# Altium footprint library Connectors-WR-PHD_Pin Header.PcbLib: 232 footprints (part 6 of 15)
Each footprint in its own frame and in the unit in brackets; x right, y up, seen from the top. Pads: shape width x height; smd on the part's side, far side on the other; paste and mask are expansions set on the pad; w line width, h text height; cw(c..) or ccw(c..) is an arc to the next point about the centre after c.
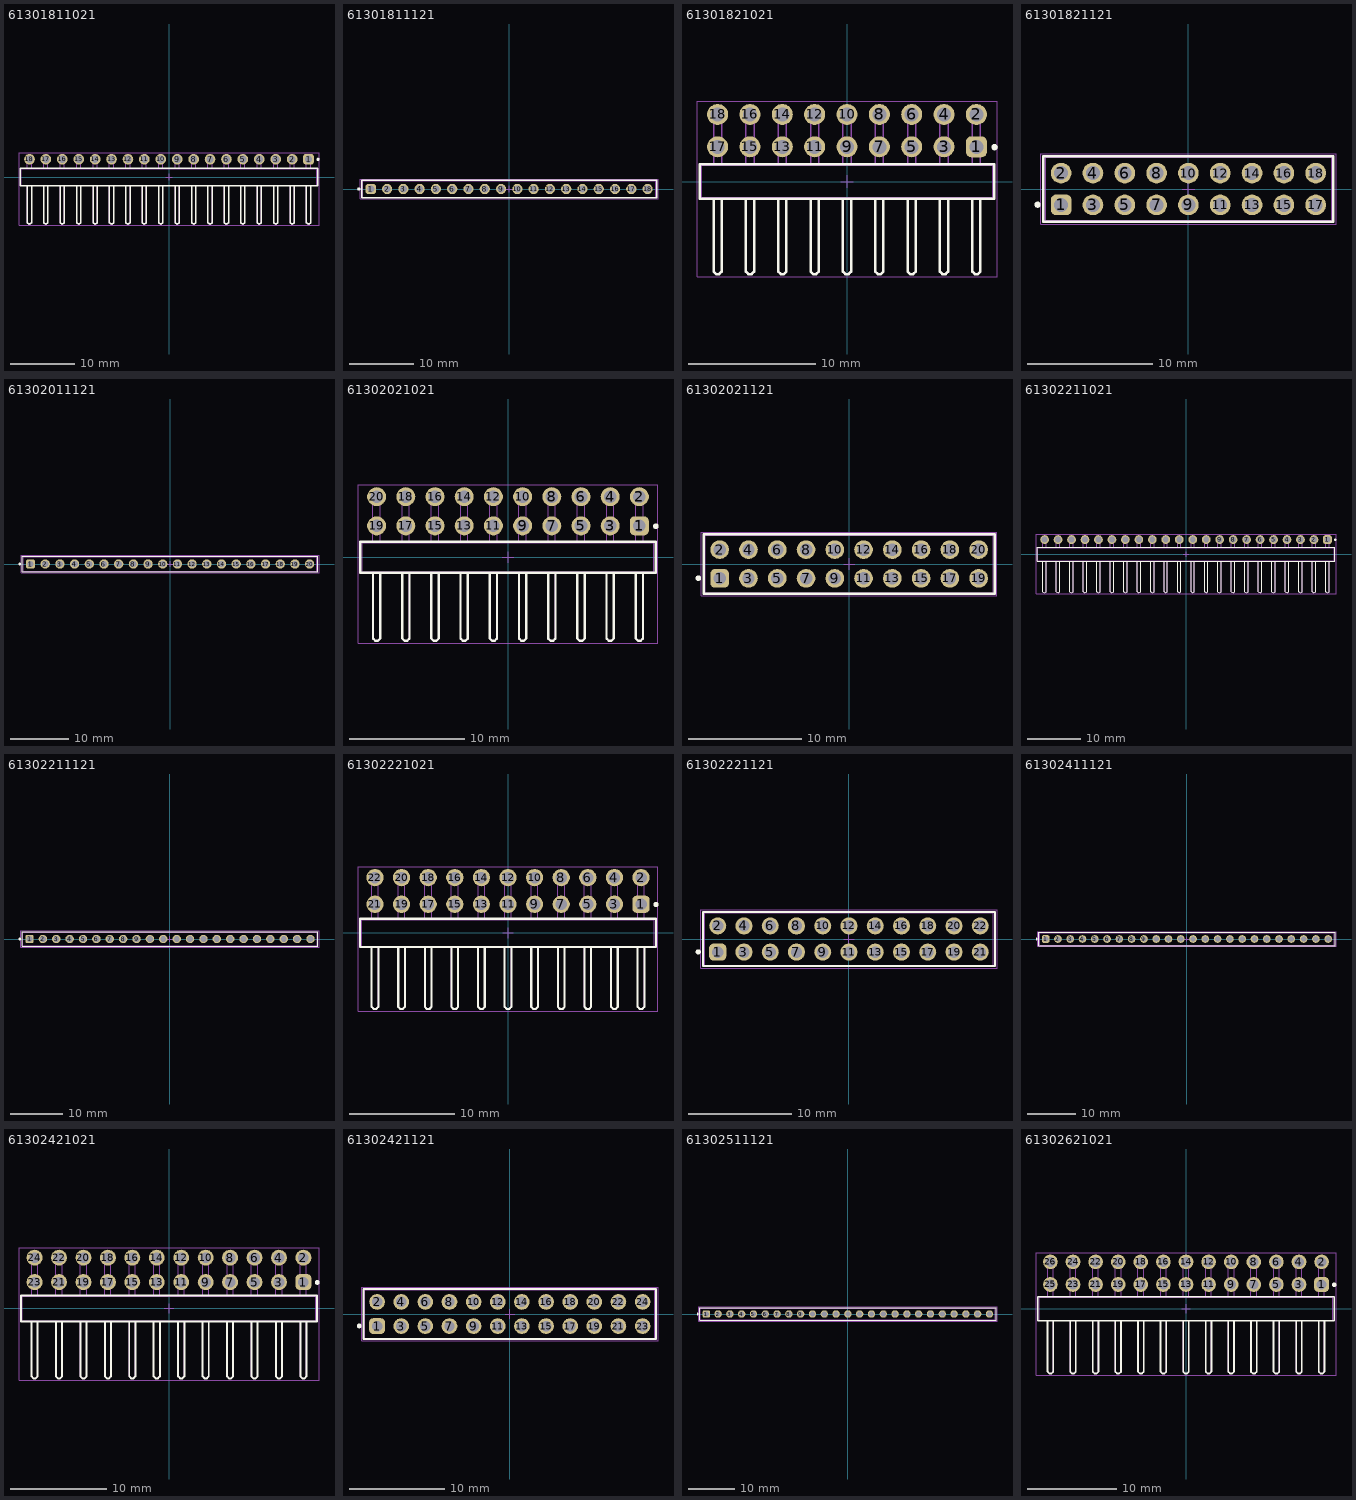
[diagram p5: the footprints below, top view; thin cyan lines are the x and y axes]

## 61301811021 [mm] "Pin Header, pitch 2.54 mm, THT, Angled, single row, 18p"
height 2.54
pads (18):
  rrect50% 1.65x1.65 hole 1.1: 1(21.59,2.77)
  round 1.65 hole 1.1: 2(19.05,2.77) 3(16.51,2.77) 4(13.97,2.77) 5(11.43,2.77) 6(8.89,2.77) 7(6.35,2.77) 8(3.81,2.77) 9(1.27,2.77) 10(-1.27,2.77) 11(-3.81,2.77) 12(-6.35,2.77) 13(-8.89,2.77) 14(-11.43,2.77) 15(-13.97,2.77) 16(-16.51,2.77) 17(-19.05,2.77) 18(-21.59,2.77)
Top Overlay:
  circle w0.25: c23.07,2.75 r0.125
  lines w0.2: -21.91,-1.345 -21.91,-7.07 -21.59,-7.27 -21.27,-7.07 -21.27,-1.345 ; -19.37,-1.345 -19.37,-7.07 -19.05,-7.27 -18.73,-7.07 -18.73,-1.345 ; -16.83,-1.345 -16.83,-7.07 -16.51,-7.27 -16.19,-7.07 -16.19,-1.345 ; -14.29,-1.345 -14.29,-7.07 -13.97,-7.27 -13.65,-7.07 -13.65,-1.345 ; -11.75,-1.345 -11.75,-7.07 -11.43,-7.27 -11.11,-7.07 -11.11,-1.345 ; -9.21,-1.345 -9.21,-7.07 -8.89,-7.27 -8.57,-7.07 -8.57,-1.345 ; -6.67,-1.345 -6.67,-7.07 -6.35,-7.27 -6.03,-7.07 -6.03,-1.345 ; -4.13,-1.345 -4.13,-7.07 -3.81,-7.27 -3.49,-7.07 -3.49,-1.345 ; -1.59,-1.345 -1.59,-7.07 -1.27,-7.27 -0.95,-7.07 -0.95,-1.345 ; 0.95,-1.345 0.95,-7.07 1.27,-7.27 1.59,-7.07 1.59,-1.345 ; 3.49,-1.345 3.49,-7.07 3.81,-7.27 4.13,-7.07 4.13,-1.345 ; 6.03,-1.345 6.03,-7.07 6.35,-7.27 6.67,-7.07 6.67,-1.345 ; 8.57,-1.345 8.57,-7.07 8.89,-7.27 9.21,-7.07 9.21,-1.345 ; 11.11,-1.345 11.11,-7.07 11.43,-7.27 11.75,-7.07 11.75,-1.345 ; 13.65,-1.345 13.65,-7.07 13.97,-7.27 14.29,-7.07 14.29,-1.345 ; 16.19,-1.345 16.19,-7.07 16.51,-7.27 16.83,-7.07 16.83,-1.345 ; 18.73,-1.345 18.73,-7.07 19.05,-7.27 19.37,-7.07 19.37,-1.345 ; 21.27,-1.345 21.27,-7.07 21.59,-7.27 21.91,-7.07 21.91,-1.345 ; -23.01,-1.345 -23.01,1.345 23.01,1.345 23.01,-1.345 -23.01,-1.345
Top Designator:
  text ".Designator" at -7.498,-0.5 h1.5
Top Component Outline:
  lines w0.1: -21.91,-1.27 -21.91,-7.07 -21.59,-7.27 -21.27,-7.07 -21.27,-1.27 ; -21.91,1.27 -21.91,3.09 -21.27,3.09 -21.27,1.27 ; -19.37,-1.27 -19.37,-7.07 -19.05,-7.27 -18.73,-7.07 -18.73,-1.27 ; -19.37,1.27 -19.37,3.09 -18.73,3.09 -18.73,1.27 ; -16.83,-1.27 -16.83,-7.07 -16.51,-7.27 -16.19,-7.07 -16.19,-1.27 ; -16.83,1.27 -16.83,3.09 -16.19,3.09 -16.19,1.27 ; -14.29,-1.27 -14.29,-7.07 -13.97,-7.27 -13.65,-7.07 -13.65,-1.27 ; -14.29,1.27 -14.29,3.09 -13.65,3.09 -13.65,1.27 ; -11.75,-1.27 -11.75,-7.07 -11.43,-7.27 -11.11,-7.07 -11.11,-1.27 ; -11.75,1.27 -11.75,3.09 -11.11,3.09 -11.11,1.27 ; -9.21,-1.27 -9.21,-7.07 -8.89,-7.27 -8.57,-7.07 -8.57,-1.27 ; -9.21,1.27 -9.21,3.09 -8.57,3.09 -8.57,1.27 ; -6.67,-1.27 -6.67,-7.07 -6.35,-7.27 -6.03,-7.07 -6.03,-1.27 ; -6.67,1.27 -6.67,3.09 -6.03,3.09 -6.03,1.27 ; -4.13,-1.27 -4.13,-7.07 -3.81,-7.27 -3.49,-7.07 -3.49,-1.27 ; -4.13,1.27 -4.13,3.09 -3.49,3.09 -3.49,1.27 ; -1.59,-1.27 -1.59,-7.07 -1.27,-7.27 -0.95,-7.07 -0.95,-1.27 ; -1.59,1.27 -1.59,3.09 -0.95,3.09 -0.95,1.27 ; 0.95,-1.27 0.95,-7.07 1.27,-7.27 1.59,-7.07 1.59,-1.27 ; 0.95,1.27 0.95,3.09 1.59,3.09 1.59,1.27 ; 3.49,-1.27 3.49,-7.07 3.81,-7.27 4.13,-7.07 4.13,-1.27 ; 3.49,1.27 3.49,3.09 4.13,3.09 4.13,1.27 ; 6.03,-1.27 6.03,-7.07 6.35,-7.27 6.67,-7.07 6.67,-1.27 ; 6.03,1.27 6.03,3.09 6.67,3.09 6.67,1.27 ; 8.57,-1.27 8.57,-7.07 8.89,-7.27 9.21,-7.07 9.21,-1.27 ; 8.57,1.27 8.57,3.09 9.21,3.09 9.21,1.27 ; 11.11,-1.27 11.11,-7.07 11.43,-7.27 11.75,-7.07 11.75,-1.27 ; 11.11,1.27 11.11,3.09 11.75,3.09 11.75,1.27 ; 13.65,-1.27 13.65,-7.07 13.97,-7.27 14.29,-7.07 14.29,-1.27 ; 13.65,1.27 13.65,3.09 14.29,3.09 14.29,1.27 ; 16.19,-1.27 16.19,-7.07 16.51,-7.27 16.83,-7.07 16.83,-1.27 ; 16.19,1.27 16.19,3.09 16.83,3.09 16.83,1.27 ; 18.73,-1.27 18.73,-7.07 19.05,-7.27 19.37,-7.07 19.37,-1.27 ; 18.73,1.27 18.73,3.09 19.37,3.09 19.37,1.27 ; 21.27,-1.27 21.27,-7.07 21.59,-7.27 21.91,-7.07 21.91,-1.27 ; 21.27,1.27 21.27,3.09 21.91,3.09 21.91,1.27 ; -22.86,-1.27 -22.86,1.27 22.86,1.27 22.86,-1.27 -22.86,-1.27
Top Courtyard:
  lines w0.05: -23.21,-7.47 -23.21,3.795 23.21,3.795 23.21,-7.47 -23.21,-7.47
Top Component Center:
  lines w0.05: -0.5,0 0.5,0 ; 0,-0.5 0,0.5
3D body "61301811021.stp": height 2.58, standoff -2.96, extent -22.86,-7.27 22.86,3.09

## 61301811121 [mm] "Pin Header, pitch 2.54 mm, THT, Vertical, single row, 18p"
height 8.54
pads (18):
  rrect50% 1.6x1.6 hole 1.1: 1(-21.59,0)
  round 1.6 hole 1.1: 2(-19.05,0) 3(-16.51,0) 4(-13.97,0) 5(-11.43,0) 6(-8.89,0) 7(-6.35,0) 8(-3.81,0) 9(-1.27,0) 10(1.27,0) 11(3.81,0) 12(6.35,0) 13(8.89,0) 14(11.43,0) 15(13.97,0) 16(16.51,0) 17(19.05,0) 18(21.59,0)
Top Overlay:
  circle w0.25: c-23.46,0 r0.125
  lines w0.2: -23.01,-1.345 -23.01,1.345 23.01,1.345 23.01,-1.345 -23.01,-1.345
Top Designator:
  text ".Designator" at -7.498,-0.5 h1.5
Top Component Outline:
  lines w0.1: -22.86,-1.27 22.86,-1.27 22.86,1.27 -22.86,1.27 -22.86,-1.27
Top Courtyard:
  lines w0.05: -23.21,-1.545 23.21,-1.545 23.21,1.545 -23.21,1.545 -23.21,-1.545
Top Component Center:
  lines w0.05: -0.5,0 0.5,0 ; 0,-0.5 0,0.5
3D body "61301811121.stp": height 8.57, standoff -2.97, extent -22.86,-1.27 22.86,1.27

## 61301821021 [mm] "Pin Header, pitch 2.54 mm, THT, Angled, dual row, 18p"
height 5.08
pads (18):
  rrect50% 1.65x1.65 hole 1.1: 1(10.16,2.73)
  round 1.65 hole 1.1: 2(10.16,5.27) 3(7.62,2.73) 4(7.62,5.27) 5(5.08,2.73) 6(5.08,5.27) 7(2.54,2.73) 8(2.54,5.27) 9(0,2.73) 10(0,5.27) 11(-2.54,2.73) 12(-2.54,5.27) 13(-5.08,2.73) 14(-5.08,5.27) 15(-7.62,2.73) 16(-7.62,5.27) 17(-10.16,2.73) 18(-10.16,5.27)
Top Overlay:
  circle w0.25: c11.59,2.7 r0.125
  lines w0.2: -10.48,-1.345 -10.48,-7.07 -10.28,-7.27 -10.04,-7.27 -9.84,-7.07 -9.84,-1.345 ; -7.94,-1.345 -7.94,-7.07 -7.74,-7.27 -7.5,-7.27 -7.3,-7.07 -7.3,-1.345 ; -5.4,-1.345 -5.4,-7.07 -5.2,-7.27 -4.96,-7.27 -4.76,-7.07 -4.76,-1.345 ; -2.86,-1.345 -2.86,-7.07 -2.66,-7.27 -2.42,-7.27 -2.22,-7.07 -2.22,-1.345 ; -0.32,-1.345 -0.32,-7.07 -0.12,-7.27 0.12,-7.27 0.32,-7.07 0.32,-1.345 ; 2.22,-1.345 2.22,-7.07 2.42,-7.27 2.66,-7.27 2.86,-7.07 2.86,-1.345 ; 4.76,-1.345 4.76,-7.07 4.96,-7.27 5.2,-7.27 5.4,-7.07 5.4,-1.345 ; 7.3,-1.345 7.3,-7.07 7.5,-7.27 7.74,-7.27 7.94,-7.07 7.94,-1.345 ; 9.84,-1.345 9.84,-7.07 10.04,-7.27 10.28,-7.27 10.48,-7.07 10.48,-1.345 ; -11.58,-1.345 -11.58,1.345 11.58,1.345 11.58,-1.345 -11.58,-1.345
Top Designator:
  text ".Designator" at -7.498,-0.5 h1.5
Top Component Outline:
  lines w0.1: -10.48,-1.27 -10.48,-7.07 -10.28,-7.27 -10.04,-7.27 -9.84,-7.07 -9.84,-1.27 ; -10.48,1.27 -10.48,5.63 -9.84,5.63 -9.84,1.27 ; -10.48,3.09 -9.84,3.09 ; -7.94,-1.27 -7.94,-7.07 -7.74,-7.27 -7.5,-7.27 -7.3,-7.07 -7.3,-1.27 ; -7.94,1.27 -7.94,5.63 -7.3,5.63 -7.3,1.27 ; -7.94,3.09 -7.3,3.09 ; -5.4,-1.27 -5.4,-7.07 -5.2,-7.27 -4.96,-7.27 -4.76,-7.07 -4.76,-1.27 ; -5.4,1.27 -5.4,5.63 -4.76,5.63 -4.76,1.27 ; -5.4,3.09 -4.76,3.09 ; -2.86,-1.27 -2.86,-7.07 -2.66,-7.27 -2.42,-7.27 -2.22,-7.07 -2.22,-1.27 ; -2.86,1.27 -2.86,5.63 -2.22,5.63 -2.22,1.27 ; -2.86,3.09 -2.22,3.09 ; -0.32,-1.27 -0.32,-7.07 -0.12,-7.27 0.12,-7.27 0.32,-7.07 0.32,-1.27 ; -0.32,1.27 -0.32,5.63 0.32,5.63 0.32,1.27 ; -0.32,3.09 0.32,3.09 ; 2.22,-1.27 2.22,-7.07 2.42,-7.27 2.66,-7.27 2.86,-7.07 2.86,-1.27 ; 2.22,1.27 2.22,5.63 2.86,5.63 2.86,1.27 ; 2.22,3.09 2.86,3.09 ; 4.76,-1.27 4.76,-7.07 4.96,-7.27 5.2,-7.27 5.4,-7.07 5.4,-1.27 ; 4.76,1.27 4.76,5.63 5.4,5.63 5.4,1.27 ; 7.3,-1.27 7.3,-7.07 7.5,-7.27 7.74,-7.27 7.94,-7.07 7.94,-1.27 ; 7.3,1.27 7.3,5.63 7.94,5.63 7.94,1.27 ; 7.3,3.09 7.94,3.09 ; 9.84,-1.27 9.84,-7.07 10.04,-7.27 10.28,-7.27 10.48,-7.07 10.48,-1.27 ; 9.84,1.27 9.84,5.63 10.48,5.63 10.48,1.27 ; 9.84,3.09 10.48,3.09 ; -11.43,-1.27 -11.43,1.27 11.43,1.27 11.43,-1.27 -11.43,-1.27 ; 4.76,3.09 5.4,3.09 4.76,3.09
Top Courtyard:
  lines w0.05: -11.78,-7.47 -11.78,6.295 11.78,6.295 11.78,-7.47 -11.78,-7.47
Top Component Center:
  lines w0.05: -0.5,0 0.5,0 ; 0,-0.5 0,0.5
3D body "61301821021.stp": height 5.12, standoff -2.96, extent -11.43,-7.27 11.43,5.63

## 61301821121 [mm] "Pin Header, pitch 2.54 mm, THT, Vertical, dual row, 18p"
height 8.54
pads (18):
  rrect50% 1.65x1.65 hole 1.1: 1(-10.16,-1.27)
  round 1.65 hole 1.1: 2(-10.16,1.27) 3(-7.62,-1.27) 4(-7.62,1.27) 5(-5.08,-1.27) 6(-5.08,1.27) 7(-2.54,-1.27) 8(-2.54,1.27) 9(0,-1.27) 10(0,1.27) 11(2.54,-1.27) 12(2.54,1.27) 13(5.08,-1.27) 14(5.08,1.27) 15(7.62,-1.27) 16(7.62,1.27) 17(10.16,-1.27) 18(10.16,1.27)
Top Overlay:
  circle w0.25: c-12.04,-1.25 r0.125
  lines w0.2: -11.58,-2.615 -11.58,2.615 11.58,2.615 11.58,-2.615 -11.58,-2.615
Top Designator:
  text ".Designator" at -7.498,-0.5 h1.5
Top Component Outline:
  lines w0.1: -11.43,-2.54 -11.43,2.54 11.43,2.54 11.43,-2.54 -11.43,-2.54
Top Courtyard:
  lines w0.05: -11.78,-2.815 11.78,-2.815 11.78,2.815 -11.78,2.815 -11.78,-2.815
Top Component Center:
  lines w0.05: -0.5,0 0.5,0 ; 0,-0.5 0,0.5
3D body "61301821121.stp": height 8.59, standoff -2.95, extent -11.43,-2.54 11.43,2.54

## 61302011121 [mm] "Pin Header, pitch 2.54 mm, THT, Vertical, single row, 20p"
height 8.54
pads (20):
  rrect50% 1.6x1.6 hole 1.1: 1(-24.13,0)
  round 1.6 hole 1.1: 2(-21.59,0) 3(-19.05,0) 4(-16.51,0) 5(-13.97,0) 6(-11.43,0) 7(-8.89,0) 8(-6.35,0) 9(-3.81,0) 10(-1.27,0) 11(1.27,0) 12(3.81,0) 13(6.35,0) 14(8.89,0) 15(11.43,0) 16(13.97,0) 17(16.51,0) 18(19.05,0) 19(21.59,0) 20(24.13,0)
Top Overlay:
  circle w0.25: c-26,0 r0.125
  lines w0.2: -25.55,-1.345 25.55,-1.345 25.55,1.345 -25.55,1.345 -25.55,-1.345
Top Designator:
  text ".Designator" at -7.498,-0.5 h1.5
Top Component Outline:
  lines w0.1: -25.4,-1.27 25.4,-1.27 25.4,1.27 -25.4,1.27 -25.4,-1.27
Top Courtyard:
  lines w0.05: -25.75,-1.545 -25.75,1.545 25.75,1.545 25.75,-1.545 -25.75,-1.545
Top Component Center:
  lines w0.05: -0.5,0 0.5,0 ; 0,-0.5 0,0.5
3D body "61302011121.stp": height 8.57, standoff -2.97, extent -25.4,-1.27 25.4,1.27

## 61302021021 [mm] "Pin Header, pitch 2.54 mm, THT, Angled, dual row, 20p"
height 5.08
pads (20):
  rrect50% 1.65x1.65 hole 1.1: 1(11.43,2.73)
  round 1.65 hole 1.1: 2(11.43,5.27) 3(8.89,2.73) 4(8.89,5.27) 5(6.35,2.73) 6(6.35,5.27) 7(3.81,2.73) 8(3.81,5.27) 9(1.27,2.73) 10(1.27,5.27) 11(-1.27,2.73) 12(-1.27,5.27) 13(-3.81,2.73) 14(-3.81,5.27) 15(-6.35,2.73) 16(-6.35,5.27) 17(-8.89,2.73) 18(-8.89,5.27) 19(-11.43,2.73) 20(-11.43,5.27)
Top Overlay:
  circle w0.25: c12.86,2.7 r0.125
  lines w0.2: -11.75,-1.345 -11.75,-7.07 -11.55,-7.27 -11.31,-7.27 -11.11,-7.07 -11.11,-1.345 ; -9.21,-1.345 -9.21,-7.07 -9.01,-7.27 -8.77,-7.27 -8.57,-7.07 -8.57,-1.345 ; -6.67,-1.345 -6.67,-7.07 -6.47,-7.27 -6.23,-7.27 -6.03,-7.07 -6.03,-1.345 ; -4.13,-1.345 -4.13,-7.07 -3.93,-7.27 -3.69,-7.27 -3.49,-7.07 -3.49,-1.345 ; -1.59,-1.345 -1.59,-7.07 -1.39,-7.27 -1.15,-7.27 -0.95,-7.07 -0.95,-1.345 ; 0.95,-1.345 0.95,-7.07 1.15,-7.27 1.39,-7.27 1.59,-7.07 1.59,-1.345 ; 3.49,-1.345 3.49,-7.07 3.69,-7.27 3.93,-7.27 4.13,-7.07 4.13,-1.345 ; 6.03,-1.345 6.03,-7.07 6.23,-7.27 6.47,-7.27 6.67,-7.07 6.67,-1.345 ; 8.57,-1.345 8.57,-7.07 8.77,-7.27 9.01,-7.27 9.21,-7.07 9.21,-1.345 ; 11.11,-1.345 11.11,-7.07 11.31,-7.27 11.55,-7.27 11.75,-7.07 11.75,-1.345 ; -12.85,-1.345 -12.85,1.345 12.85,1.345 12.85,-1.345 -12.85,-1.345
Top Designator:
  text ".Designator" at -7.498,-0.5 h1.5
Top Component Outline:
  lines w0.1: -11.75,-1.27 -11.75,-7.07 -11.55,-7.27 -11.31,-7.27 -11.11,-7.07 -11.11,-1.27 ; -11.75,1.27 -11.75,5.63 -11.11,5.63 -11.11,1.27 ; -11.75,3.09 -11.11,3.09 ; -9.21,-1.27 -9.21,-7.07 -9.01,-7.27 -8.77,-7.27 -8.57,-7.07 -8.57,-1.27 ; -9.21,1.27 -9.21,5.63 -8.57,5.63 -8.57,1.27 ; -9.21,3.09 -8.57,3.09 ; -6.67,-1.27 -6.67,-7.07 -6.47,-7.27 -6.23,-7.27 -6.03,-7.07 -6.03,-1.27 ; -6.67,1.27 -6.67,5.63 -6.03,5.63 -6.03,1.27 ; -6.67,3.09 -6.03,3.09 ; -4.13,-1.27 -4.13,-7.07 -3.93,-7.27 -3.69,-7.27 -3.49,-7.07 -3.49,-1.27 ; -4.13,1.27 -4.13,5.63 -3.49,5.63 -3.49,1.27 ; -4.13,3.09 -3.49,3.09 ; -1.59,-1.27 -1.59,-7.07 -1.39,-7.27 -1.15,-7.27 -0.95,-7.07 -0.95,-1.27 ; -1.59,1.27 -1.59,5.63 -0.95,5.63 -0.95,1.27 ; -1.59,3.09 -0.95,3.09 ; 0.95,-1.27 0.95,-7.07 1.15,-7.27 1.39,-7.27 1.59,-7.07 1.59,-1.27 ; 0.95,1.27 0.95,5.63 1.59,5.63 1.59,1.27 ; 0.95,3.09 1.59,3.09 ; 3.49,-1.27 3.49,-7.07 3.69,-7.27 3.93,-7.27 4.13,-7.07 4.13,-1.27 ; 3.49,1.27 3.49,5.63 4.13,5.63 4.13,1.27 ; 6.03,-1.27 6.03,-7.07 6.23,-7.27 6.47,-7.27 6.67,-7.07 6.67,-1.27 ; 6.03,1.27 6.03,5.63 6.67,5.63 6.67,1.27 ; 6.03,3.09 6.67,3.09 ; 8.57,-1.27 8.57,-7.07 8.77,-7.27 9.01,-7.27 9.21,-7.07 9.21,-1.27 ; 8.57,1.27 8.57,5.63 9.21,5.63 9.21,1.27 ; 8.57,3.09 9.21,3.09 ; 11.11,-1.27 11.11,-7.07 11.31,-7.27 11.55,-7.27 11.75,-7.07 11.75,-1.27 ; 11.11,1.27 11.11,5.63 11.75,5.63 11.75,1.27 ; 11.11,3.09 11.75,3.09 ; -12.7,-1.27 12.7,-1.27 12.7,1.27 -12.7,1.27 -12.7,-1.27 ; 3.49,3.09 4.13,3.09 3.49,3.09
Top Courtyard:
  lines w0.05: -13.05,-7.47 -13.05,6.295 13.05,6.295 13.05,-7.47 -13.05,-7.47
Top Component Center:
  lines w0.05: -0.5,0 0.5,0 ; 0,-0.5 0,0.5
3D body "61302021021.stp": height 5.12, standoff -2.96, extent -12.7,-7.27 12.7,5.63

## 61302021121 [mm] "Pin Header, pitch 2.54 mm, THT, Vertical, dual row, 20p"
height 8.54
pads (20):
  rrect50% 1.65x1.65 hole 1.1: 1(-11.43,-1.27)
  round 1.65 hole 1.1: 2(-11.43,1.27) 3(-8.89,-1.27) 4(-8.89,1.27) 5(-6.35,-1.27) 6(-6.35,1.27) 7(-3.81,-1.27) 8(-3.81,1.27) 9(-1.27,-1.27) 10(-1.27,1.27) 11(1.27,-1.27) 12(1.27,1.27) 13(3.81,-1.27) 14(3.81,1.27) 15(6.35,-1.27) 16(6.35,1.27) 17(8.89,-1.27) 18(8.89,1.27) 19(11.43,-1.27) 20(11.43,1.27)
Top Overlay:
  circle w0.25: c-13.31,-1.25 r0.125
  lines w0.2: -12.85,-2.615 12.85,-2.615 12.85,2.615 -12.85,2.615 -12.85,-2.615
Top Designator:
  text ".Designator" at -7.498,-0.5 h1.5
Top Component Outline:
  lines w0.1: -12.7,-2.54 12.7,-2.54 12.7,2.54 -12.7,2.54 -12.7,-2.54
Top Courtyard:
  lines w0.05: -13.05,-2.815 -13.05,2.815 13.05,2.815 13.05,-2.815 -13.05,-2.815
Top Component Center:
  lines w0.05: -0.5,0 0.5,0 ; 0,-0.5 0,0.5
3D body "61302021121.stp": height 8.59, standoff -2.95, extent -12.7,-2.54 12.7,2.54

## 61302211021 [mm] "Pin Header, pitch 2.54 mm, THT, Angled, single row, 22p"
height 2.54
pads (22):
  rrect50% 1.65x1.65 hole 1.1: 1(26.67,2.77)
  round 1.65 hole 1.1: 2(24.13,2.77) 3(21.59,2.77) 4(19.05,2.77) 5(16.51,2.77) 6(13.97,2.77) 7(11.43,2.77) 8(8.89,2.77) 9(6.35,2.77) 10(3.81,2.77) 11(1.27,2.77) 12(-1.27,2.77) 13(-3.81,2.77) 14(-6.35,2.77) 15(-8.89,2.77) 16(-11.43,2.77) 17(-13.97,2.77) 18(-16.51,2.77) 19(-19.05,2.77) 20(-21.59,2.77) 21(-24.13,2.77) 22(-26.67,2.77)
Top Overlay:
  circle w0.25: c28.15,2.75 r0.125
  lines w0.2: -26.99,-1.345 -26.99,-7.07 -26.67,-7.27 -26.35,-7.07 -26.35,-1.345 ; -24.45,-1.345 -24.45,-7.07 -24.13,-7.27 -23.81,-7.07 -23.81,-1.345 ; -21.91,-1.345 -21.91,-7.07 -21.59,-7.27 -21.27,-7.07 -21.27,-1.345 ; -19.37,-1.345 -19.37,-7.07 -19.05,-7.27 -18.73,-7.07 -18.73,-1.345 ; -16.83,-1.345 -16.83,-7.07 -16.51,-7.27 -16.19,-7.07 -16.19,-1.345 ; -14.29,-1.345 -14.29,-7.07 -13.97,-7.27 -13.65,-7.07 -13.65,-1.345 ; -11.75,-1.345 -11.75,-7.07 -11.43,-7.27 -11.11,-7.07 -11.11,-1.345 ; -9.21,-1.345 -9.21,-7.07 -8.89,-7.27 -8.57,-7.07 -8.57,-1.345 ; -6.67,-1.345 -6.67,-7.07 -6.35,-7.27 -6.03,-7.07 -6.03,-1.345 ; -4.13,-1.345 -4.13,-7.07 -3.81,-7.27 -3.49,-7.07 -3.49,-1.345 ; -1.59,-1.345 -1.59,-7.07 -1.27,-7.27 -0.95,-7.07 -0.95,-1.345 ; 0.95,-1.345 0.95,-7.07 1.27,-7.27 1.59,-7.07 1.59,-1.345 ; 3.49,-1.345 3.49,-7.07 3.81,-7.27 4.13,-7.07 4.13,-1.345 ; 6.03,-1.345 6.03,-7.07 6.35,-7.27 6.67,-7.07 6.67,-1.345 ; 8.57,-1.345 8.57,-7.07 8.89,-7.27 9.21,-7.07 9.21,-1.345 ; 11.11,-1.345 11.11,-7.07 11.43,-7.27 11.75,-7.07 11.75,-1.345 ; 13.65,-1.345 13.65,-7.07 13.97,-7.27 14.29,-7.07 14.29,-1.345 ; 16.19,-1.345 16.19,-7.07 16.51,-7.27 16.83,-7.07 16.83,-1.345 ; 18.73,-1.345 18.73,-7.07 19.05,-7.27 19.37,-7.07 19.37,-1.345 ; 21.27,-1.345 21.27,-7.07 21.59,-7.27 21.91,-7.07 21.91,-1.345 ; 23.81,-1.345 23.81,-7.07 24.13,-7.27 24.45,-7.07 24.45,-1.345 ; 26.35,-1.345 26.35,-7.07 26.67,-7.27 26.99,-7.07 26.99,-1.345 ; -28.09,-1.345 28.09,-1.345 28.09,1.345 -28.09,1.345 -28.09,-1.345
Top Designator:
  text ".Designator" at -7.498,-0.5 h1.5
Top Component Outline:
  drawing of 158 lines, arcs and shapes, not listed
Top Courtyard:
  lines w0.05: -28.29,-7.47 28.29,-7.47 28.29,3.795 -28.29,3.795 -28.29,-7.47
Top Component Center:
  lines w0.05: -0.5,0 0.5,0 ; 0,-0.5 0,0.5
3D body "61302211021.stp": height 2.58, standoff -2.96, extent -27.94,-7.27 27.94,3.09

## 61302211121 [mm] "Pin Header, pitch 2.54 mm, THT, Vertical, single row, 22p"
height 8.54
pads (22):
  rrect50% 1.6x1.6 hole 1.1: 1(-26.67,0)
  round 1.6 hole 1.1: 2(-24.13,0) 3(-21.59,0) 4(-19.05,0) 5(-16.51,0) 6(-13.97,0) 7(-11.43,0) 8(-8.89,0) 9(-6.35,0) 10(-3.81,0) 11(-1.27,0) 12(1.27,0) 13(3.81,0) 14(6.35,0) 15(8.89,0) 16(11.43,0) 17(13.97,0) 18(16.51,0) 19(19.05,0) 20(21.59,0) 21(24.13,0) 22(26.67,0)
Top Overlay:
  circle w0.25: c-28.54,0 r0.125
  lines w0.2: -28.09,-1.345 -28.09,1.345 28.09,1.345 28.09,-1.345 -28.09,-1.345
Top Designator:
  text ".Designator" at -7.498,-0.5 h1.5
Top Component Outline:
  lines w0.1: -27.94,-1.27 -27.94,1.27 27.94,1.27 27.94,-1.27 -27.94,-1.27
Top Courtyard:
  lines w0.05: -28.29,-1.545 28.29,-1.545 28.29,1.545 -28.29,1.545 -28.29,-1.545
Top Component Center:
  lines w0.05: -0.5,0 0.5,0 ; 0,-0.5 0,0.5
3D body "61302211121.stp": height 8.57, standoff -2.97, extent -27.94,-1.27 27.94,1.27

## 61302221021 [mm] "Pin Header, pitch 2.54 mm, THT, Angled, dual row, 22p"
height 5.08
pads (22):
  rrect50% 1.65x1.65 hole 1.1: 1(12.7,2.73)
  round 1.65 hole 1.1: 2(12.7,5.27) 3(10.16,2.73) 4(10.16,5.27) 5(7.62,2.73) 6(7.62,5.27) 7(5.08,2.73) 8(5.08,5.27) 9(2.54,2.73) 10(2.54,5.27) 11(0,2.73) 12(0,5.27) 13(-2.54,2.73) 14(-2.54,5.27) 15(-5.08,2.73) 16(-5.08,5.27) 17(-7.62,2.73) 18(-7.62,5.27) 19(-10.16,2.73) 20(-10.16,5.27) 21(-12.7,2.73) 22(-12.7,5.27)
Top Overlay:
  circle w0.25: c14.13,2.7 r0.125
  lines w0.2: -13.02,-1.345 -13.02,-7.07 -12.82,-7.27 -12.58,-7.27 -12.38,-7.07 -12.38,-1.345 ; -10.48,-1.345 -10.48,-7.07 -10.28,-7.27 -10.04,-7.27 -9.84,-7.07 -9.84,-1.345 ; -7.94,-1.345 -7.94,-7.07 -7.74,-7.27 -7.5,-7.27 -7.3,-7.07 -7.3,-1.345 ; -5.4,-1.345 -5.4,-7.07 -5.2,-7.27 -4.96,-7.27 -4.76,-7.07 -4.76,-1.345 ; -2.86,-1.345 -2.86,-7.07 -2.66,-7.27 -2.42,-7.27 -2.22,-7.07 -2.22,-1.345 ; -0.32,-1.345 -0.32,-7.07 -0.12,-7.27 0.12,-7.27 0.32,-7.07 0.32,-1.345 ; 2.22,-1.345 2.22,-7.07 2.42,-7.27 2.66,-7.27 2.86,-7.07 2.86,-1.345 ; 4.76,-1.345 4.76,-7.07 4.96,-7.27 5.2,-7.27 5.4,-7.07 5.4,-1.345 ; 7.3,-1.345 7.3,-7.07 7.5,-7.27 7.74,-7.27 7.94,-7.07 7.94,-1.345 ; 9.84,-1.345 9.84,-7.07 10.04,-7.27 10.28,-7.27 10.48,-7.07 10.48,-1.345 ; 12.38,-1.345 12.38,-7.07 12.58,-7.27 12.82,-7.27 13.02,-7.07 13.02,-1.345 ; -14.12,-1.345 14.12,-1.345 14.12,1.345 -14.12,1.345 -14.12,-1.345
Top Designator:
  text ".Designator" at -7.498,-0.5 h1.5
Top Component Outline:
  lines w0.1: -13.02,-1.27 -13.02,-7.07 -12.82,-7.27 -12.58,-7.27 -12.38,-7.07 -12.38,-1.27 ; -13.02,1.27 -13.02,5.63 -12.38,5.63 -12.38,1.27 ; -13.02,3.09 -12.38,3.09 ; -10.48,-1.27 -10.48,-7.07 -10.28,-7.27 -10.04,-7.27 -9.84,-7.07 -9.84,-1.27 ; -10.48,1.27 -10.48,5.63 -9.84,5.63 -9.84,1.27 ; -10.48,3.09 -9.84,3.09 ; -7.94,-1.27 -7.94,-7.07 -7.74,-7.27 -7.5,-7.27 -7.3,-7.07 -7.3,-1.27 ; -7.94,1.27 -7.94,5.63 -7.3,5.63 -7.3,1.27 ; -7.94,3.09 -7.3,3.09 ; -5.4,-1.27 -5.4,-7.07 -5.2,-7.27 -4.96,-7.27 -4.76,-7.07 -4.76,-1.27 ; -5.4,1.27 -5.4,5.63 -4.76,5.63 -4.76,1.27 ; -5.4,3.09 -4.76,3.09 ; -2.86,-1.27 -2.86,-7.07 -2.66,-7.27 -2.42,-7.27 -2.22,-7.07 -2.22,-1.27 ; -2.86,1.27 -2.86,5.63 -2.22,5.63 -2.22,1.27 ; -2.86,3.09 -2.22,3.09 ; -0.32,-1.27 -0.32,-7.07 -0.12,-7.27 0.12,-7.27 0.32,-7.07 0.32,-1.27 ; -0.32,1.27 -0.32,5.63 0.32,5.63 0.32,1.27 ; -0.32,3.09 0.32,3.09 ; 2.22,-1.27 2.22,-7.07 2.42,-7.27 2.66,-7.27 2.86,-7.07 2.86,-1.27 ; 2.22,1.27 2.22,5.63 2.86,5.63 2.86,1.27 ; 4.76,-1.27 4.76,-7.07 4.96,-7.27 5.2,-7.27 5.4,-7.07 5.4,-1.27 ; 4.76,1.27 4.76,5.63 5.4,5.63 5.4,1.27 ; 4.76,3.09 5.4,3.09 ; 7.3,-1.27 7.3,-7.07 7.5,-7.27 7.74,-7.27 7.94,-7.07 7.94,-1.27 ; 7.3,1.27 7.3,5.63 7.94,5.63 7.94,1.27 ; 7.3,3.09 7.94,3.09 ; 9.84,-1.27 9.84,-7.07 10.04,-7.27 10.28,-7.27 10.48,-7.07 10.48,-1.27 ; 9.84,1.27 9.84,5.63 10.48,5.63 10.48,1.27 ; 9.84,3.09 10.48,3.09 ; 12.38,-1.27 12.38,-7.07 12.58,-7.27 12.82,-7.27 13.02,-7.07 13.02,-1.27 ; 12.38,1.27 12.38,5.63 13.02,5.63 13.02,1.27 ; 12.38,3.09 13.02,3.09 ; -13.97,-1.27 -13.97,1.27 13.97,1.27 13.97,-1.27 -13.97,-1.27 ; 2.22,3.09 2.86,3.09 2.22,3.09
Top Courtyard:
  lines w0.05: -14.32,-7.47 14.32,-7.47 14.32,6.295 -14.32,6.295 -14.32,-7.47
Top Component Center:
  lines w0.05: -0.5,0 0.5,0 ; 0,-0.5 0,0.5
3D body "61302221021.stp": height 5.12, standoff -2.96, extent -13.97,-7.27 13.97,5.63

## 61302221121 [mm] "Pin Header, pitch 2.54 mm, THT, Vertical, dual row, 22p"
height 8.54
pads (22):
  rrect50% 1.65x1.65 hole 1.1: 1(-12.7,-1.27)
  round 1.65 hole 1.1: 2(-12.7,1.27) 3(-10.16,-1.27) 4(-10.16,1.27) 5(-7.62,-1.27) 6(-7.62,1.27) 7(-5.08,-1.27) 8(-5.08,1.27) 9(-2.54,-1.27) 10(-2.54,1.27) 11(0,-1.27) 12(0,1.27) 13(2.54,-1.27) 14(2.54,1.27) 15(5.08,-1.27) 16(5.08,1.27) 17(7.62,-1.27) 18(7.62,1.27) 19(10.16,-1.27) 20(10.16,1.27) 21(12.7,-1.27) 22(12.7,1.27)
Top Overlay:
  circle w0.25: c-14.58,-1.25 r0.125
  lines w0.2: -14.12,-2.615 -14.12,2.615 14.12,2.615 14.12,-2.615 -14.12,-2.615
Top Designator:
  text ".Designator" at -7.498,-0.5 h1.5
Top Component Outline:
  lines w0.1: -13.97,-2.54 -13.97,2.54 13.97,2.54 13.97,-2.54 -13.97,-2.54
Top Courtyard:
  lines w0.05: -14.32,-2.815 14.32,-2.815 14.32,2.815 -14.32,2.815 -14.32,-2.815
Top Component Center:
  lines w0.05: -0.5,0 0.5,0 ; 0,-0.5 0,0.5
3D body "61302221121.stp": height 8.59, standoff -2.95, extent -13.97,-2.54 13.97,2.54

## 61302411121 [mm] "Pin Header, pitch 2.54 mm, THT, Vertical, single row, 24p"
height 8.54
pads (24):
  rrect50% 1.6x1.6 hole 1.1: 1(-29.21,0)
  round 1.6 hole 1.1: 2(-26.67,0) 3(-24.13,0) 4(-21.59,0) 5(-19.05,0) 6(-16.51,0) 7(-13.97,0) 8(-11.43,0) 9(-8.89,0) 10(-6.35,0) 11(-3.81,0) 12(-1.27,0) 13(1.27,0) 14(3.81,0) 15(6.35,0) 16(8.89,0) 17(11.43,0) 18(13.97,0) 19(16.51,0) 20(19.05,0) 21(21.59,0) 22(24.13,0) 23(26.67,0) 24(29.21,0)
Top Overlay:
  circle w0.25: c-31.08,0 r0.125
  lines w0.2: -30.63,-1.345 30.63,-1.345 30.63,1.345 -30.63,1.345 -30.63,-1.345
Top Designator:
  text ".Designator" at -7.498,-0.5 h1.5
Top Component Outline:
  lines w0.1: -30.48,-1.27 30.48,-1.27 30.48,1.27 -30.48,1.27 -30.48,-1.27
Top Courtyard:
  lines w0.05: -30.83,-1.545 -30.83,1.545 30.83,1.545 30.83,-1.545 -30.83,-1.545
Top Component Center:
  lines w0.05: -0.5,0 0.5,0 ; 0,-0.5 0,0.5
3D body "61302411121.stp": height 8.57, standoff -2.97, extent -30.48,-1.27 30.48,1.27

## 61302421021 [mm] "Pin Header, pitch 2.54 mm, THT, Angled, dual row, 24p"
height 5.08
pads (24):
  rrect50% 1.65x1.65 hole 1.1: 1(13.97,2.73)
  round 1.65 hole 1.1: 2(13.97,5.27) 3(11.43,2.73) 4(11.43,5.27) 5(8.89,2.73) 6(8.89,5.27) 7(6.35,2.73) 8(6.35,5.27) 9(3.81,2.73) 10(3.81,5.27) 11(1.27,2.73) 12(1.27,5.27) 13(-1.27,2.73) 14(-1.27,5.27) 15(-3.81,2.73) 16(-3.81,5.27) 17(-6.35,2.73) 18(-6.35,5.27) 19(-8.89,2.73) 20(-8.89,5.27) 21(-11.43,2.73) 22(-11.43,5.27) 23(-13.97,2.73) 24(-13.97,5.27)
Top Overlay:
  circle w0.25: c15.4,2.7 r0.125
  lines w0.2: -14.29,-1.345 -14.29,-7.07 -14.09,-7.27 -13.85,-7.27 -13.65,-7.07 -13.65,-1.345 ; -11.75,-1.345 -11.75,-7.07 -11.55,-7.27 -11.31,-7.27 -11.11,-7.07 -11.11,-1.345 ; -9.21,-1.345 -9.21,-7.07 -9.01,-7.27 -8.77,-7.27 -8.57,-7.07 -8.57,-1.345 ; -6.67,-1.345 -6.67,-7.07 -6.47,-7.27 -6.23,-7.27 -6.03,-7.07 -6.03,-1.345 ; -4.13,-1.345 -4.13,-7.07 -3.93,-7.27 -3.69,-7.27 -3.49,-7.07 -3.49,-1.345 ; -1.59,-1.345 -1.59,-7.07 -1.39,-7.27 -1.15,-7.27 -0.95,-7.07 -0.95,-1.345 ; 0.95,-1.345 0.95,-7.07 1.15,-7.27 1.39,-7.27 1.59,-7.07 1.59,-1.345 ; 3.49,-1.345 3.49,-7.07 3.69,-7.27 3.93,-7.27 4.13,-7.07 4.13,-1.345 ; 6.03,-1.345 6.03,-7.07 6.23,-7.27 6.47,-7.27 6.67,-7.07 6.67,-1.345 ; 8.57,-1.345 8.57,-7.07 8.77,-7.27 9.01,-7.27 9.21,-7.07 9.21,-1.345 ; 11.11,-1.345 11.11,-7.07 11.31,-7.27 11.55,-7.27 11.75,-7.07 11.75,-1.345 ; 13.65,-1.345 13.65,-7.07 13.85,-7.27 14.09,-7.27 14.29,-7.07 14.29,-1.345 ; -15.39,-1.345 15.39,-1.345 15.39,1.345 -15.39,1.345 -15.39,-1.345
Top Designator:
  text ".Designator" at -7.498,-0.5 h1.5
Top Component Outline:
  lines w0.1: -14.29,-1.27 -14.29,-7.07 -14.09,-7.27 -13.85,-7.27 -13.65,-7.07 -13.65,-1.27 ; -14.29,1.27 -14.29,5.63 -13.65,5.63 -13.65,1.27 ; -14.29,3.09 -13.65,3.09 ; -11.75,-1.27 -11.75,-7.07 -11.55,-7.27 -11.31,-7.27 -11.11,-7.07 -11.11,-1.27 ; -11.75,1.27 -11.75,5.63 -11.11,5.63 -11.11,1.27 ; -11.75,3.09 -11.11,3.09 ; -9.21,-1.27 -9.21,-7.07 -9.01,-7.27 -8.77,-7.27 -8.57,-7.07 -8.57,-1.27 ; -9.21,1.27 -9.21,5.63 -8.57,5.63 -8.57,1.27 ; -9.21,3.09 -8.57,3.09 ; -6.67,-1.27 -6.67,-7.07 -6.47,-7.27 -6.23,-7.27 -6.03,-7.07 -6.03,-1.27 ; -6.67,1.27 -6.67,5.63 -6.03,5.63 -6.03,1.27 ; -6.67,3.09 -6.03,3.09 ; -4.13,-1.27 -4.13,-7.07 -3.93,-7.27 -3.69,-7.27 -3.49,-7.07 -3.49,-1.27 ; -4.13,1.27 -4.13,5.63 -3.49,5.63 -3.49,1.27 ; -4.13,3.09 -3.49,3.09 ; -1.59,-1.27 -1.59,-7.07 -1.39,-7.27 -1.15,-7.27 -0.95,-7.07 -0.95,-1.27 ; -1.59,1.27 -1.59,5.63 -0.95,5.63 -0.95,1.27 ; -1.59,3.09 -0.95,3.09 ; 0.95,-1.27 0.95,-7.07 1.15,-7.27 1.39,-7.27 1.59,-7.07 1.59,-1.27 ; 0.95,1.27 0.95,5.63 1.59,5.63 1.59,1.27 ; 3.49,-1.27 3.49,-7.07 3.69,-7.27 3.93,-7.27 4.13,-7.07 4.13,-1.27 ; 3.49,1.27 3.49,5.63 4.13,5.63 4.13,1.27 ; 3.49,3.09 4.13,3.09 ; 6.03,-1.27 6.03,-7.07 6.23,-7.27 6.47,-7.27 6.67,-7.07 6.67,-1.27 ; 6.03,1.27 6.03,5.63 6.67,5.63 6.67,1.27 ; 6.03,3.09 6.67,3.09 ; 8.57,-1.27 8.57,-7.07 8.77,-7.27 9.01,-7.27 9.21,-7.07 9.21,-1.27 ; 8.57,1.27 8.57,5.63 9.21,5.63 9.21,1.27 ; 8.57,3.09 9.21,3.09 ; 11.11,-1.27 11.11,-7.07 11.31,-7.27 11.55,-7.27 11.75,-7.07 11.75,-1.27 ; 11.11,1.27 11.11,5.63 11.75,5.63 11.75,1.27 ; 11.11,3.09 11.75,3.09 ; 13.65,-1.27 13.65,-7.07 13.85,-7.27 14.09,-7.27 14.29,-7.07 14.29,-1.27 ; 13.65,1.27 13.65,5.63 14.29,5.63 14.29,1.27 ; 13.65,3.09 14.29,3.09 ; -15.24,-1.27 -15.24,1.27 15.24,1.27 15.24,-1.27 -15.24,-1.27 ; 0.95,3.09 1.59,3.09 0.95,3.09
Top Courtyard:
  lines w0.05: -15.59,-7.47 15.59,-7.47 15.59,6.295 -15.59,6.295 -15.59,-7.47
Top Component Center:
  lines w0.05: -0.5,0 0.5,0 ; 0,-0.5 0,0.5
3D body "61302421021.stp": height 5.12, standoff -2.96, extent -15.24,-7.27 15.24,5.63

## 61302421121 [mm] "Pin Header, pitch 2.54 mm, THT, Vertical, dual row, 24p"
height 8.54
pads (24):
  rrect50% 1.65x1.65 hole 1.1: 1(-13.97,-1.27)
  round 1.65 hole 1.1: 2(-13.97,1.27) 3(-11.43,-1.27) 4(-11.43,1.27) 5(-8.89,-1.27) 6(-8.89,1.27) 7(-6.35,-1.27) 8(-6.35,1.27) 9(-3.81,-1.27) 10(-3.81,1.27) 11(-1.27,-1.27) 12(-1.27,1.27) 13(1.27,-1.27) 14(1.27,1.27) 15(3.81,-1.27) 16(3.81,1.27) 17(6.35,-1.27) 18(6.35,1.27) 19(8.89,-1.27) 20(8.89,1.27) 21(11.43,-1.27) 22(11.43,1.27) 23(13.97,-1.27) 24(13.97,1.27)
Top Overlay:
  circle w0.25: c-15.85,-1.25 r0.125
  lines w0.2: -15.39,-2.615 15.39,-2.615 15.39,2.615 -15.39,2.615 -15.39,-2.615
Top Designator:
  text ".Designator" at -7.498,-0.5 h1.5
Top Component Outline:
  lines w0.1: -15.24,-2.54 15.24,-2.54 15.24,2.54 -15.24,2.54 -15.24,-2.54
Top Courtyard:
  lines w0.05: -15.59,-2.815 -15.59,2.815 15.59,2.815 15.59,-2.815 -15.59,-2.815
Top Component Center:
  lines w0.05: -0.5,0 0.5,0 ; 0,-0.5 0,0.5
3D body "61302421121.stp": height 8.59, standoff -2.95, extent -15.24,-2.54 15.24,2.54

## 61302511121 [mm] "Pin Header, pitch 2.54 mm, THT, Vertical, single row, 25p"
height 8.54
pads (25):
  rrect50% 1.6x1.6 hole 1.1: 1(-30.48,0)
  round 1.6 hole 1.1: 2(-27.94,0) 3(-25.4,0) 4(-22.86,0) 5(-20.32,0) 6(-17.78,0) 7(-15.24,0) 8(-12.7,0) 9(-10.16,0) 10(-7.62,0) 11(-5.08,0) 12(-2.54,0) 13(0,0) 14(2.54,0) 15(5.08,0) 16(7.62,0) 17(10.16,0) 18(12.7,0) 19(15.24,0) 20(17.78,0) 21(20.32,0) 22(22.86,0) 23(25.4,0) 24(27.94,0) 25(30.48,0)
Top Overlay:
  circle w0.25: c-32.35,0 r0.125
  lines w0.2: -31.9,-1.345 31.9,-1.345 31.9,1.345 -31.9,1.345 -31.9,-1.345
Top Designator:
  text ".Designator" at -7.498,-0.5 h1.5
Top Component Outline:
  lines w0.1: -31.75,-1.27 31.75,-1.27 31.75,1.27 -31.75,1.27 -31.75,-1.27
Top Courtyard:
  lines w0.05: -32.1,-1.545 -32.1,1.545 32.1,1.545 32.1,-1.545 -32.1,-1.545
Top Component Center:
  lines w0.05: -0.5,0 0.5,0 ; 0,-0.5 0,0.5
3D body "61302511121.stp": height 8.57, standoff -2.97, extent -31.75,-1.27 31.75,1.27

## 61302621021 [mm] "Pin Header, pitch 2.54 mm, THT, Angled, dual row, 26p"
height 5.08
pads (26):
  rrect50% 1.65x1.65 hole 1.1: 1(15.24,2.73)
  round 1.65 hole 1.1: 2(15.24,5.27) 3(12.7,2.73) 4(12.7,5.27) 5(10.16,2.73) 6(10.16,5.27) 7(7.62,2.73) 8(7.62,5.27) 9(5.08,2.73) 10(5.08,5.27) 11(2.54,2.73) 12(2.54,5.27) 13(0,2.73) 14(0,5.27) 15(-2.54,2.73) 16(-2.54,5.27) 17(-5.08,2.73) 18(-5.08,5.27) 19(-7.62,2.73) 20(-7.62,5.27) 21(-10.16,2.73) 22(-10.16,5.27) 23(-12.7,2.73) 24(-12.7,5.27) 25(-15.24,2.73) 26(-15.24,5.27)
Top Overlay:
  circle w0.25: c16.67,2.7 r0.125
  lines w0.2: -15.56,-1.345 -15.56,-7.07 -15.36,-7.27 -15.12,-7.27 -14.92,-7.07 -14.92,-1.345 ; -13.02,-1.345 -13.02,-7.07 -12.82,-7.27 -12.58,-7.27 -12.38,-7.07 -12.38,-1.345 ; -10.48,-1.345 -10.48,-7.07 -10.28,-7.27 -10.04,-7.27 -9.84,-7.07 -9.84,-1.345 ; -7.94,-1.345 -7.94,-7.07 -7.74,-7.27 -7.5,-7.27 -7.3,-7.07 -7.3,-1.345 ; -5.4,-1.345 -5.4,-7.07 -5.2,-7.27 -4.96,-7.27 -4.76,-7.07 -4.76,-1.345 ; -2.86,-1.345 -2.86,-7.07 -2.66,-7.27 -2.42,-7.27 -2.22,-7.07 -2.22,-1.345 ; -0.32,-1.345 -0.32,-7.07 -0.12,-7.27 0.12,-7.27 0.32,-7.07 0.32,-1.345 ; 2.22,-1.345 2.22,-7.07 2.42,-7.27 2.66,-7.27 2.86,-7.07 2.86,-1.345 ; 4.76,-1.345 4.76,-7.07 4.96,-7.27 5.2,-7.27 5.4,-7.07 5.4,-1.345 ; 7.3,-1.345 7.3,-7.07 7.5,-7.27 7.74,-7.27 7.94,-7.07 7.94,-1.345 ; 9.84,-1.345 9.84,-7.07 10.04,-7.27 10.28,-7.27 10.48,-7.07 10.48,-1.345 ; 12.38,-1.345 12.38,-7.07 12.58,-7.27 12.82,-7.27 13.02,-7.07 13.02,-1.345 ; 14.92,-1.345 14.92,-7.07 15.12,-7.27 15.36,-7.27 15.56,-7.07 15.56,-1.345 ; -16.66,-1.345 16.66,-1.345 16.66,1.345 -16.66,1.345 -16.66,-1.345
Top Designator:
  text ".Designator" at -7.498,-0.5 h1.5
Top Component Outline:
  lines w0.1: -15.56,-1.27 -15.56,-7.07 -15.36,-7.27 -15.12,-7.27 -14.92,-7.07 -14.92,-1.27 ; -15.56,1.27 -15.56,5.63 -14.92,5.63 -14.92,1.27 ; -15.56,3.09 -14.92,3.09 ; -13.02,-1.27 -13.02,-7.07 -12.82,-7.27 -12.58,-7.27 -12.38,-7.07 -12.38,-1.27 ; -13.02,1.27 -13.02,5.63 -12.38,5.63 -12.38,1.27 ; -13.02,3.09 -12.38,3.09 ; -10.48,-1.27 -10.48,-7.07 -10.28,-7.27 -10.04,-7.27 -9.84,-7.07 -9.84,-1.27 ; -10.48,1.27 -10.48,5.63 -9.84,5.63 -9.84,1.27 ; -10.48,3.09 -9.84,3.09 ; -7.94,-1.27 -7.94,-7.07 -7.74,-7.27 -7.5,-7.27 -7.3,-7.07 -7.3,-1.27 ; -7.94,1.27 -7.94,5.63 -7.3,5.63 -7.3,1.27 ; -7.94,3.09 -7.3,3.09 ; -5.4,-1.27 -5.4,-7.07 -5.2,-7.27 -4.96,-7.27 -4.76,-7.07 -4.76,-1.27 ; -5.4,1.27 -5.4,5.63 -4.76,5.63 -4.76,1.27 ; -5.4,3.09 -4.76,3.09 ; -2.86,-1.27 -2.86,-7.07 -2.66,-7.27 -2.42,-7.27 -2.22,-7.07 -2.22,-1.27 ; -2.86,1.27 -2.86,5.63 -2.22,5.63 -2.22,1.27 ; -2.86,3.09 -2.22,3.09 ; -0.32,-1.27 -0.32,-7.07 -0.12,-7.27 0.12,-7.27 0.32,-7.07 0.32,-1.27 ; -0.32,1.27 -0.32,5.63 0.32,5.63 0.32,1.27 ; 2.22,-1.27 2.22,-7.07 2.42,-7.27 2.66,-7.27 2.86,-7.07 2.86,-1.27 ; 2.22,1.27 2.22,5.63 2.86,5.63 2.86,1.27 ; 2.22,3.09 2.86,3.09 ; 4.76,-1.27 4.76,-7.07 4.96,-7.27 5.2,-7.27 5.4,-7.07 5.4,-1.27 ; 4.76,1.27 4.76,5.63 5.4,5.63 5.4,1.27 ; 4.76,3.09 5.4,3.09 ; 7.3,-1.27 7.3,-7.07 7.5,-7.27 7.74,-7.27 7.94,-7.07 7.94,-1.27 ; 7.3,1.27 7.3,5.63 7.94,5.63 7.94,1.27 ; 7.3,3.09 7.94,3.09 ; 9.84,-1.27 9.84,-7.07 10.04,-7.27 10.28,-7.27 10.48,-7.07 10.48,-1.27 ; 9.84,1.27 9.84,5.63 10.48,5.63 10.48,1.27 ; 9.84,3.09 10.48,3.09 ; 12.38,-1.27 12.38,-7.07 12.58,-7.27 12.82,-7.27 13.02,-7.07 13.02,-1.27 ; 12.38,1.27 12.38,5.63 13.02,5.63 13.02,1.27 ; 12.38,3.09 13.02,3.09 ; 14.92,-1.27 14.92,-7.07 15.12,-7.27 15.36,-7.27 15.56,-7.07 15.56,-1.27 ; 14.92,1.27 14.92,5.63 15.56,5.63 15.56,1.27 ; 14.92,3.09 15.56,3.09 ; -16.51,-1.27 -16.51,1.27 16.51,1.27 16.51,-1.27 -16.51,-1.27 ; -0.32,3.09 0.32,3.09 -0.32,3.09
Top Courtyard:
  lines w0.05: -16.86,-7.47 16.86,-7.47 16.86,6.295 -16.86,6.295 -16.86,-7.47
Top Component Center:
  lines w0.05: -0.5,0 0.5,0 ; 0,-0.5 0,0.5
3D body "61302621021.stp": height 5.12, standoff -2.96, extent -16.51,-7.27 16.51,5.63